# Altium footprint library nixie.PcbLib: 19 footprints (part 1 of 2)
Each footprint in its own frame and in the unit in brackets; x right, y up, seen from the top. Pads: shape width x height; smd on the part's side, far side on the other; paste and mask are expansions set on the pad; w line width, h text height; cw(c..) or ccw(c..) is an arc to the next point about the centre after c.
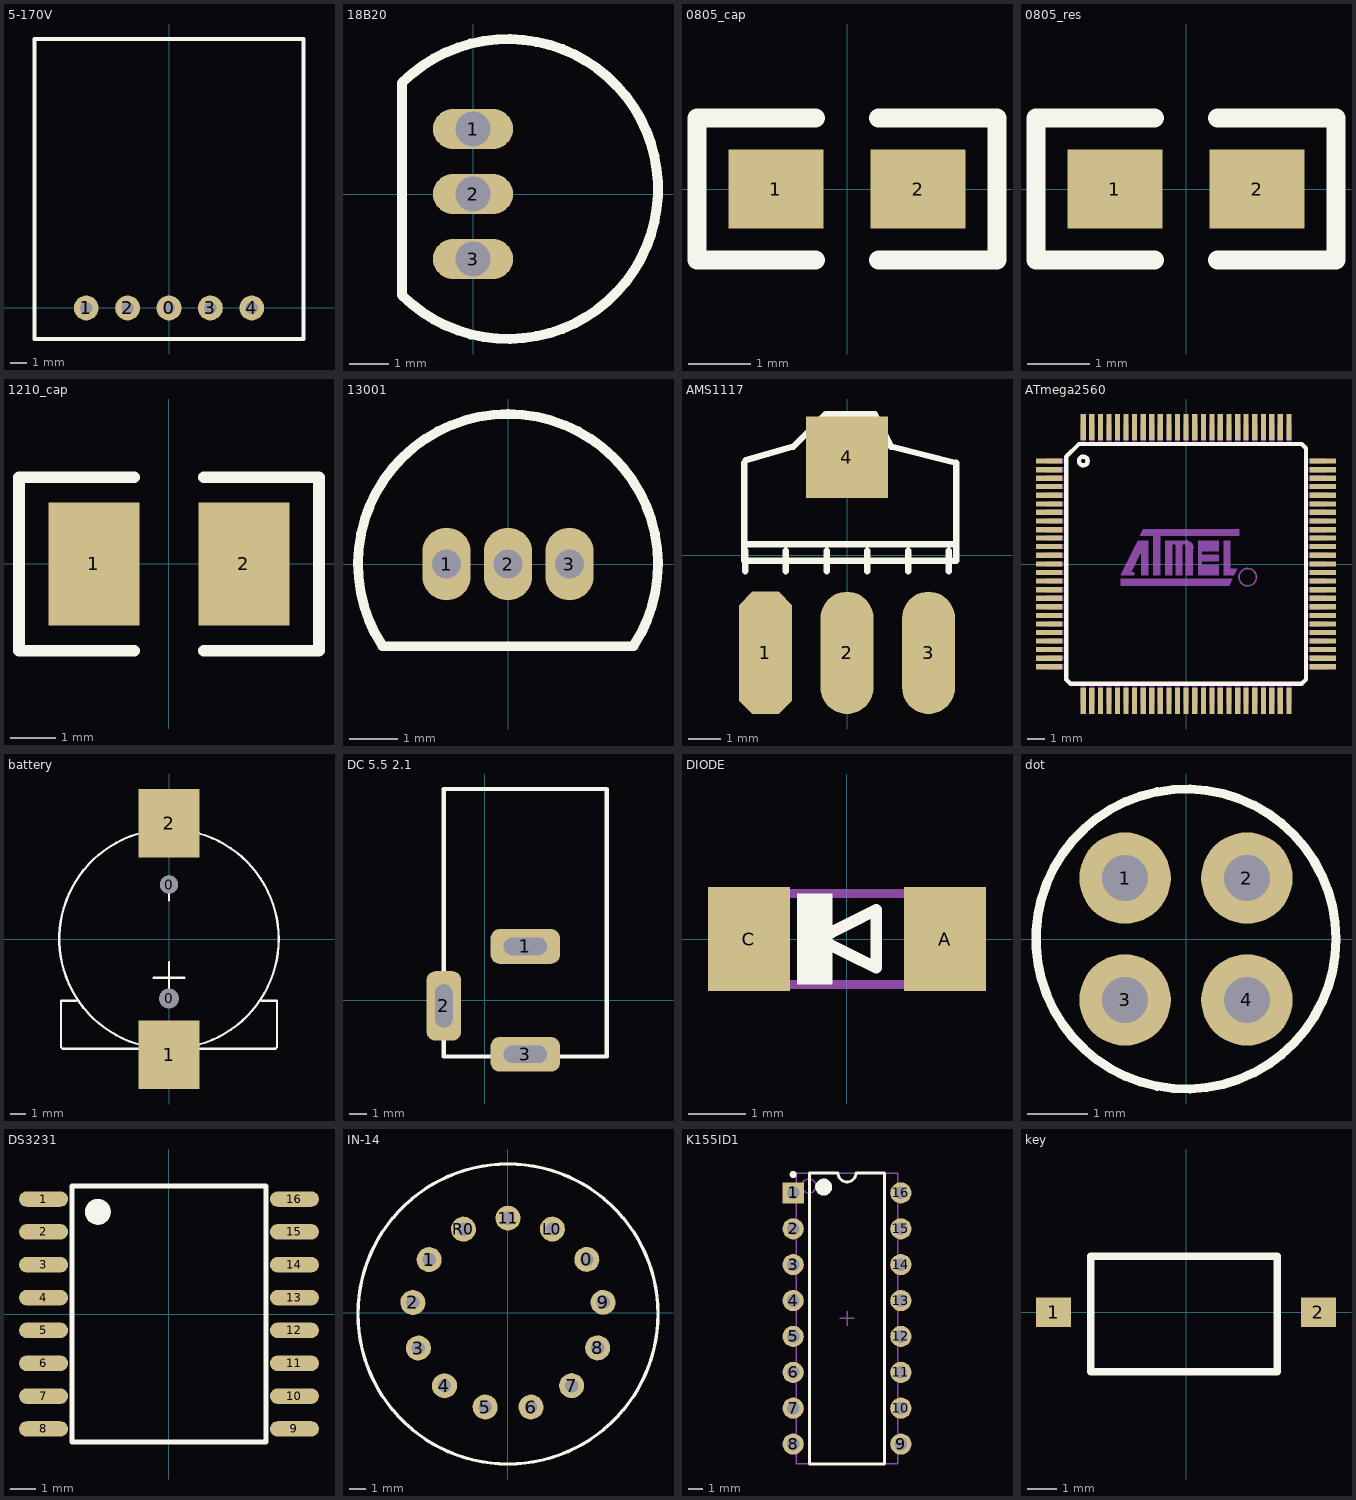
[diagram p0: the footprints below, top view; thin cyan lines are the x and y axes]

## 5-170V [mil]
pads (5):
  round 60 hole 30: 0(0,0) 1(-200,0) 2(-100,0) 3(100,0) 4(200,0)
Top Overlay:
  lines w10: -325,-75 -325,650 325,650 325,-75 -325,-75
3D body: height 49.21, standoff 0, extent -325,-75 325,650

## 18B20 [mil]
pads (3):
  oval 80x40 hole 35: 1(0,65) 2(0,0) 3(0,-65)
Top Overlay:
  lines w10: -71.07,-101.07 ccw(c35,5) -71.07,111.07 -71.07,-101.07
3D body: height 189.96, standoff -578.74, extent -57.91,-93.7 85,93.7

## 0805_cap [mil]
pads (2):
  rect 60x50 smd: 1(-45,0) 2(45,0)
Top Overlay:
  lines w12: -20,-45 -95,-45 -95,45 -20,45 ; 20,-45 95,-45 95,45 20,45
3D body: height 31.5, standoff 0, extent -39.37,-25 39.37,24.21

## 0805_res [mil]
pads (2):
  rect 60x50 smd: 1(-45,0) 2(45,0)
Top Overlay:
  lines w12: -20,-45 -95,-45 -95,45 -20,45 ; 20,-45 95,-45 95,45 20,45
3D body: height 29.92, standoff 0, extent -45.55,-26.57 45,26.57

## 1210_cap [mm]
pads (2):
  rect 2x2.7 smd: 1(-1.651,0) 2(1.651,0)
Top Overlay:
  lines w0.254: -0.762,-1.905 -3.302,-1.905 -3.302,1.905 -0.762,1.905 ; 0.762,-1.905 3.302,-1.905 3.302,1.905 0.762,1.905
3D body: height 2.45, standoff -0.05, extent -1.727,-1.27 1.473,1.23

## 13001 [mm]
pads (3):
  oval 1x1.5 hole 0.6: 1(-1.27,0) 2(0,0) 3(1.27,0)
Top Overlay:
  circle w0.2: c0,0 r0.129
  lines w0.2: -2.592,-1.7 cw(c0,0) 2.592,-1.7 -2.592,-1.7
3D body: height 10.31, standoff -5.8, extent -3.12,-1.68 3.08,3.13

## AMS1117 [mil]
pads (4):
  oct 65x150 smd: 1(-100,-120)
  oval 65x150 smd: 2(0,-120) 3(100,-120)
  rect 100x100 smd: 4(0,120)
Top Overlay:
  lines w7.87: -126,113 -126,13 ; -125,-20 -125,5 ; -124.33,116.33 -66,133 -26,173 34,173 54,133 134,113 134,-7 ; -75,-20 -75,5 ; -25,-20 -25,5 ; 25,-20 25,5 ; 75,-20 75,5 ; 125,-20 125,5 ; -126,13 134,13 134,-7 ; -126,13 -126,-7 134,-7
3D body: height 72.83, standoff -0.39, extent -125.03,-142.72 130.87,132.84

## ATmega2560 [mil]
pads (100):
  rect 60x12 smd: 1(-314.98,236.98) 2(-314.98,216.98) 3(-314.98,196.98) 4(-314.98,177.98) 5(-314.98,157.98) 6(-314.98,137.98) 7(-314.98,118.98) 8(-314.98,98.98) 9(-314.98,78.98) 10(-314.98,59.98) 11(-314.98,39.98) 12(-314.98,19.98) 13(-314.98,-0.02) 14(-314.98,-19.7) 15(-314.98,-39.39) 16(-314.98,-59.07) 17(-314.98,-78.76) 18(-314.98,-98.44) 19(-314.98,-118.13) 20(-314.98,-137.81) 21(-314.98,-157.5) 22(-314.98,-177.19) 23(-314.98,-196.87) 24(-314.98,-216.56) 25(-314.98,-236.24) 51(314.98,-236.24) 52(314.98,-216.56) 53(314.98,-196.87) 54(314.98,-177.19) 55(314.98,-157.5) 56(314.98,-137.81) 57(314.98,-118.13) 58(314.98,-98.44) 59(314.98,-78.76) 60(314.98,-59.07) 61(314.98,-39.39) 62(314.98,-19.7) 63(314.98,-0.02) 64(314.98,19.98) 65(314.98,39.98) 66(314.98,59.98) 67(314.98,78.98) 68(314.98,98.98) 69(314.98,118.98) 70(314.98,137.98) 71(314.98,157.98) 72(314.98,177.98) 73(314.98,196.98) 74(314.98,216.98) 75(314.98,236.98)
  rect 12x60 smd: 26(-236.24,-314.98) 27(-216.56,-314.98) 28(-196.87,-314.98) 29(-177.19,-314.98) 30(-157.5,-314.98) 31(-137.81,-314.98) 32(-118.13,-314.98) 33(-98.44,-314.98) 34(-78.76,-314.98) 35(-59.07,-314.98) 36(-39.39,-314.98) 37(-19.7,-314.98) 38(-0.02,-314.98) 39(19.98,-314.98) 40(39.98,-314.98) 41(59.98,-314.98) 42(78.98,-314.98) 43(98.98,-314.98) 44(118.98,-314.98) 45(137.98,-314.98) 46(157.98,-314.98) 47(177.98,-314.98) 48(196.98,-314.98) 49(216.98,-314.98) 50(236.98,-314.98) 76(236.98,314.98) 77(216.98,314.98) 78(196.98,314.98) 79(177.98,314.98) 80(157.98,314.98) 81(137.98,314.98) 82(118.98,314.98) 83(98.98,314.98) 84(78.98,314.98) 85(59.98,314.98) 86(39.98,314.98) 87(19.98,314.98) 88(-0.02,314.98) 89(-19.7,314.98) 90(-39.39,314.98) 91(-59.07,314.98) 92(-78.76,314.98) 93(-98.44,314.98) 94(-118.13,314.98) 95(-137.81,314.98) 96(-157.5,314.98) 97(-177.19,314.98) 98(-196.87,314.98) 99(-216.56,314.98) 100(-236.24,314.98)
Top Overlay:
  circle w10: c-236.24,236.98 r10
  lines w10: -275.61,-265.77 -265.77,-275.61 265.98,-275.61 275.98,-265.77 275.98,265.98 265.98,275.98 -246.08,275.98 -275.61,246.98 -275.61,-265.77
Mechanical 16:
  drawing of 108 lines, arcs and shapes, not listed
  text "TQFP 100" at -110.65,-97.66 h49.6
  text "R" at 133.98,-42.15 h37.2
3D body: height 39.37, standoff -3.94, extent -314.92,-314.92 315,315

## battery [mm]
pads (4):
  round 1.2 hole 1.3 unplated: 0(0,-3.912)
  round 1.2 hole 1.2 unplated: 0(0,3.581)
  rect 4x4.5 smd: 1(0,-7.62) 2(0,7.62)
Top Overlay:
  circle w0.152: c0,0 r7.22
  lines w0.152: -6.096,-4.064 -7.112,-4.064 -7.112,-7.112 -7.004,-7.22 0,-7.22 7.004,-7.22 7.112,-7.112 7.112,-4.064 6.096,-4.064 ; -1.016,-2.54 1.016,-2.54 ; 0,-3.556 0,-1.524 ; 0,2.54 0,4.064
3D body: height 4.23, standoff -0.52, extent -7.51,-9.553 7.239,9.248

## DC 5.5 2.1 [mm]
pads (3):
  rrect50% 4x2 hole 1 slot 2.5 at 0 deg: 1(2.349,3.111) 3(2.349,-3.111)
  rrect50% 2x4 hole 1 slot 2.5 at 90 deg: 2(-2.349,-0.318)
Top Overlay:
  lines w0.254: -2.349,-3.238 2.222,-3.238 7.048,-3.238 7.048,12.192 -2.349,12.192 -2.349,-0.318 -2.349,-3.238
3D body: height 10.5, standoff -4, extent -2.371,-3.84 6.985,11.46

## DIODE [mil]
pads (2):
  rect 56x71 smd: A(66.96,0) C(-66.96,0)
Top Overlay:
  rectangle: -34.04,-31 -10.04,31
  lines w8: -19.72,0 19.96,20 19.96,-19.68 -19.72,0
Mechanical 16:
  rectangle: -73.04,-34 -51.04,34
  rectangle: 50.96,-34 72.96,34
  lines w6: -52.04,-31 51.96,-31 ; -52.04,31 51.96,31
3D body: height -15.75, standoff -45.67, extent -45.32,-26.58 45.24,26.57

## dot [mil]
pads (4):
  round 60 hole 30: 1(-40,40) 2(40,40) 3(-40,-40) 4(40,-40)
Top Overlay:
  circle w6: c0,0 r98.43
3D body: height 1968.5, standoff 0, extent -99.21,-99.8 100,99.8

## DS3231 [mm]
pads (16):
  oval 1.9x0.6 smd: 1(-4.85,4.445) 2(-4.85,3.175) 3(-4.85,1.905) 4(-4.85,0.635) 5(-4.85,-0.635) 6(-4.85,-1.905) 7(-4.85,-3.175) 8(-4.85,-4.445) 9(4.85,-4.445) 10(4.85,-3.175) 11(4.85,-1.905) 12(4.85,-0.635) 13(4.85,0.635) 14(4.85,1.905) 15(4.85,3.175) 16(4.85,4.445)
Top Overlay:
  circle w0.5: c-2.75,3.95 r0.25
  lines w0.2: -3.75,-4.95 -3.75,4.95 3.75,4.95 3.75,-4.95 -3.75,-4.95
3D body: height 3.5, standoff 0, extent -5.15,-5.1 5.15,5.1

## IN-14 [mm]
pads (13):
  round 1.5 hole 0.8: 0(4.728,3.19) 1(-4.732,3.182) 2(-5.708,0.608) 3(-5.375,-2.125) 4(-3.809,-4.389) 5(-1.371,-5.667) 6(1.382,-5.665) 7(3.818,-4.383) 8(5.379,-2.115) 9(5.708,0.618) 11(0.001,5.667) L0(2.665,5.013) R0(-2.672,5.008)
Top Overlay:
  circle w0.2: c0.001,-0.083 r9
3D body: height 57.61, standoff -5, extent -9.173,-9.5 9.427,9.3

## K155ID1 [mm]
pads (16):
  rect 1.5x1.5 hole 0.9: 1(-1249.934,-1242.568)
  round 1.5 hole 0.9: 2(-1249.934,-1245.108) 3(-1249.934,-1247.648) 4(-1249.934,-1250.188) 5(-1249.934,-1252.728) 6(-1249.934,-1255.268) 7(-1249.934,-1257.808) 8(-1249.934,-1260.348) 9(-1242.314,-1260.348) 10(-1242.314,-1257.808) 11(-1242.314,-1255.268) 12(-1242.314,-1252.728) 13(-1242.314,-1250.188) 14(-1242.314,-1247.648) 15(-1242.314,-1245.108) 16(-1242.314,-1242.568)
Top Overlay:
  circle w0.6: c-1247.774,-1242.158 r0.3
  circle w0.25: c-1249.934,-1241.268 r0.125
  lines w0.2: -1248.774,-1261.758 -1243.474,-1261.758 -1243.474,-1241.158 -1245.489,-1241.158 cw(c-1246.124,-1241.158) -1246.759,-1241.158 -1248.774,-1241.158 -1248.774,-1261.758
Mechanical 13:
  circle w0.1: c-1248.824,-1242.083 r0.5
  lines w0.1: -1249.724,-1261.733 -1242.524,-1261.733 -1242.524,-1241.183 -1249.724,-1241.183 -1249.724,-1261.733
Mechanical 15:
  lines w0.1: -1246.624,-1251.458 -1245.624,-1251.458 ; -1246.124,-1251.958 -1246.124,-1250.958
3D body: height 5.08, standoff 0, extent -1249.724,-1261.733 -1242.524,-1241.183

## key [mm]
pads (2):
  rect 1.2x1 smd: 1(-4.508,0) 2(4.508,0)
Top Overlay:
  lines w0.254: -3.238,-2.032 3.111,-2.032 3.111,1.905 -3.238,1.905 -3.238,-2.032
3D body: height 2.49, standoff 0.1, extent -4.098,-1.831 4.042,1.769